# Altium footprint library PCB11.PcbLib: 40 footprints (part 2 of 3)
Each footprint in its own frame and in the unit in brackets; x right, y up, seen from the top. Pads: shape width x height; smd on the part's side, far side on the other; paste and mask are expansions set on the pad; w line width, h text height; cw(c..) or ccw(c..) is an arc to the next point about the centre after c.
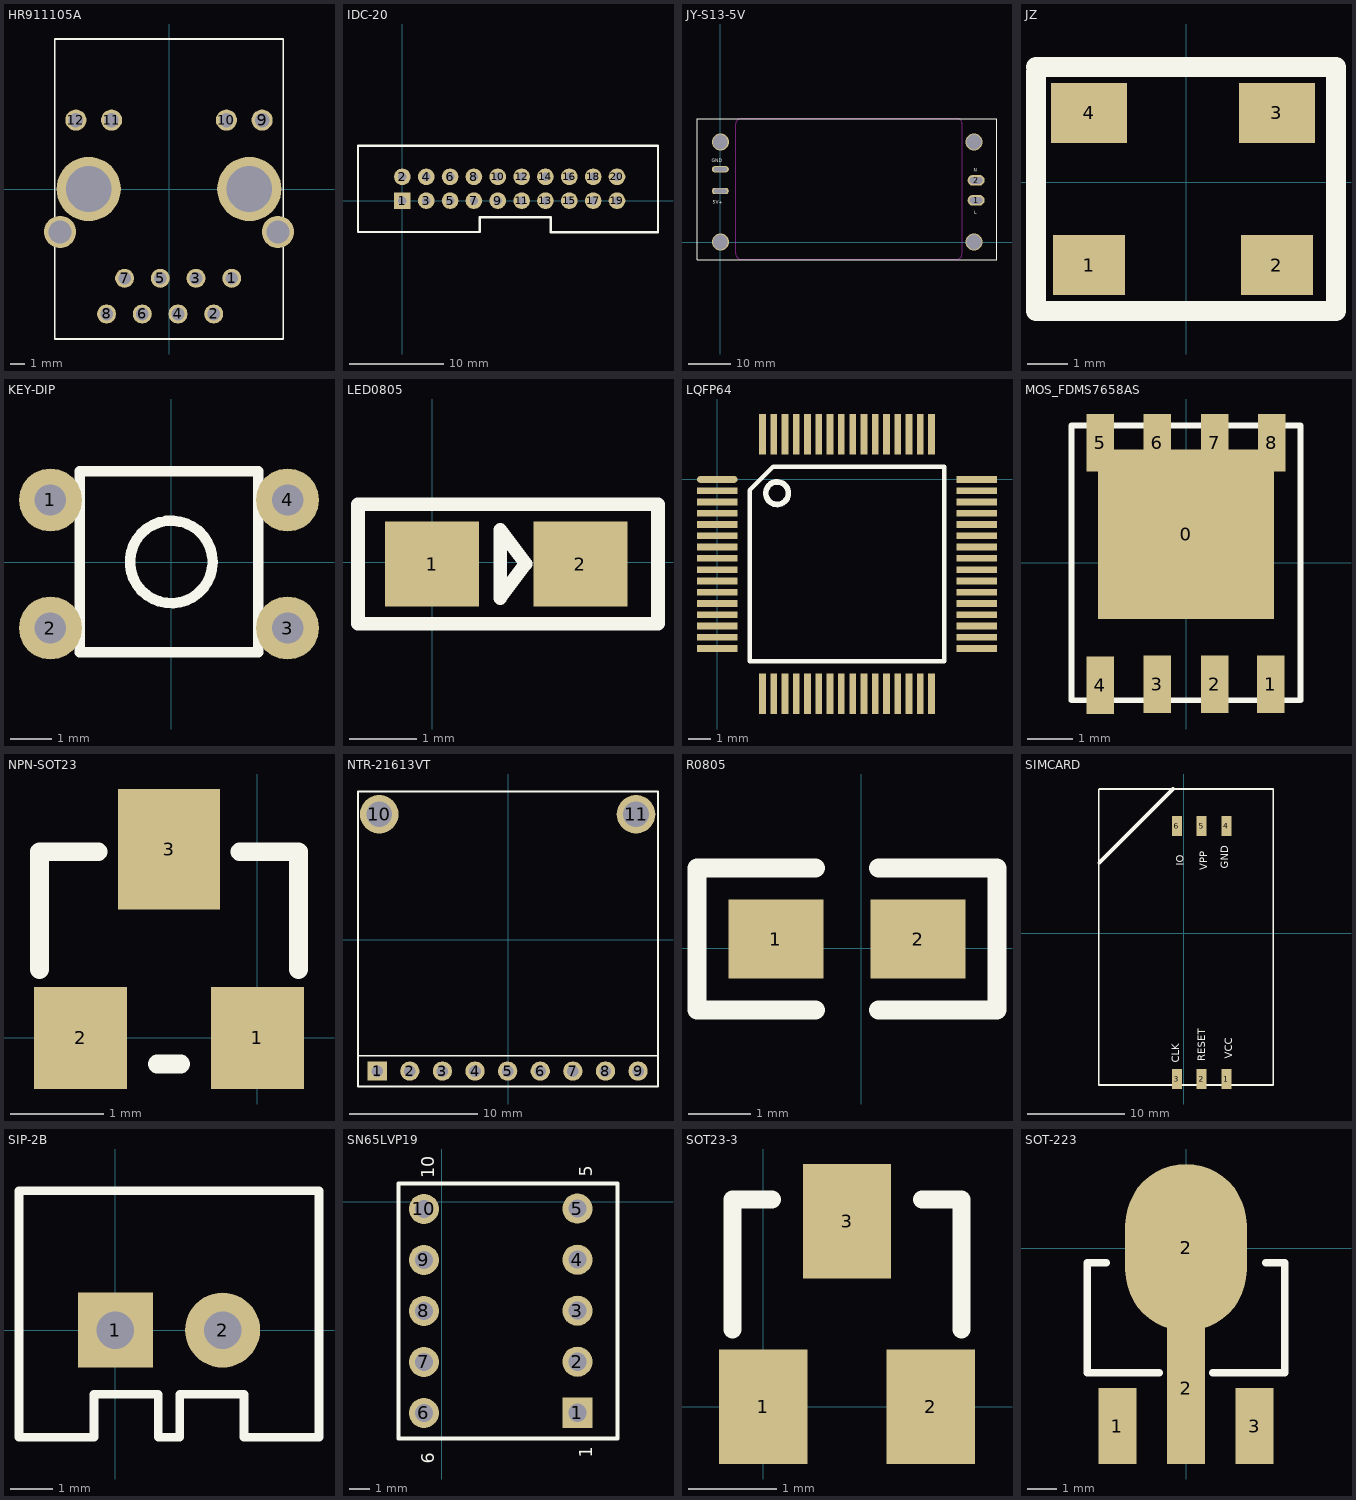
[diagram p1: the footprints below, top view; thin cyan lines are the x and y axes]

## HR911105A [mm]
pads (16):
  round 1.35 hole 0.89: 1(4.46,-6.35) 2(3.18,-8.89) 3(1.92,-6.35) 4(0.64,-8.89) 5(-0.62,-6.35) 6(-1.9,-8.89) 7(-3.16,-6.35) 8(-4.44,-8.89)
  round 1.5 hole 1.02: 9(6.625,4.9) 10(4.085,4.9) 11(-4.085,4.9) 12(-6.625,4.9)
  round 2.286 hole 1.63: ""(-7.745,-3.05) ""(7.745,-3.05)
  round 4.572 hole 3.25: ""(-5.715,0) ""(5.715,0)
Top Overlay:
  lines w0.127: -8.128,-10.668 8.128,-10.668 8.128,10.668 -8.128,10.668 -8.128,-10.668

## IDC-20 [mil]
height 270.08
pads (20):
  rect 70x70 hole 35: 1(1,0)
  round 70 hole 35: 2(1,100) 3(101,0) 4(101,100) 5(201,0) 6(201,100) 7(301,0) 8(301,100) 9(401,0) 10(401,100) 11(501,0) 12(501,100) 13(601,0) 14(601,100) 15(701,0) 16(701,100) 17(801,0) 18(801,100) 19(901,0) 20(901,100)
Top Overlay:
  lines w10: -185.22,-131.58 -185.22,231.02 1073.05,231.02 1073.05,-133.16 623.91,-133.16 623.91,-68.79 325.91,-68.79 325.91,-131.58 -185.22,-131.58

## JY-S13-5V [mm]
pads (4):
  oval 4x2.5 hole 1.5 slot 3 at 0 deg: 1(60,9.8) 2(60,14.5)
  oval 4x1.5 hole 1 slot 3 at 0 deg: 3(0,12) 4(0,17.1)
via 59.5,23.5 diameter 4 hole 3.5
via 0,23.5 diameter 4 hole 3.5
via 59.5,0 diameter 4 hole 3.5
via 0,0 diameter 4 hole 3.5
Top Overlay:
  lines w0.127: -5.461,-4.064 -5.461,28.956 64.897,28.956 64.897,-4.064 -5.461,-4.064
  text "N" at 59.436,16.51 h0.76
  text "L" at 59.563,6.604 h0.76
  text "5V+" at -1.778,9.017 h0.76
  text "GND" at -2.032,18.796 h0.76
Keep-Out Layer:
  lines w0.127: 11.963,-4.013 55.423,-4.013 ccw(c55.423,-2.743) 56.693,-2.743 56.693,27.737 ccw(c55.423,27.737) 55.423,29.007 4.902,29.007 ccw(c4.902,27.737) 3.632,27.737 3.632,-2.743 ccw(c4.902,-2.743) 4.902,-4.013 12.04,-4.013

## JZ [mm]
pads (4):
  rect 1.8x1.5 smd: 1(-2.425,-2.076) 2(2.274,-2.076)
  rect 1.9x1.5 smd: 3(2.274,1.734) 4(-2.425,1.734)
Top Overlay:
  lines w0.508: -3.75,1.226 -3.75,2.75 ; -3.75,1.353 -3.75,-1.695 -3.75,-3.219 3.75,-3.219 3.75,2.877 -3.75,2.877

## KEY-DIP [mil]
height 270.08
pads (4):
  round 60 hole 30: 1(-115,59.45) 2(-115,-62.6) 3(111,-62.6) 4(111,59.45)
Top Overlay:
  circle w10: c0.18,0.39 r39.37
  lines w10: -87.06,-85.63 82.86,-85.63 82.86,87.01 -87.06,87.01 -87.06,-85.63

## LED0805 [mm]
height 6.86
pads (2):
  rect 1.4x1.27 smd: 1(0,-0.025) 2(2.21,-0.025)
Top Overlay:
  lines w0.203: 1.013,-0.529 1.394,-0.021 ; 1.016,-0.533 1.016,0.483 1.397,-0.025 ; -1.104,-0.914 3.367,-0.914 3.367,0.864 -1.104,0.864 -1.104,-0.914

## LQFP64 [mm]
height 6.86
pads (64):
  oval 1.8x0.3 smd: 1(0,0)
  rect 1.8x0.3 smd: 2(0,-0.5) 3(0,-1) 4(0,-1.5) 5(0,-2) 6(0,-2.5) 7(0,-3) 8(0,-3.5) 9(0,-4) 10(0,-4.5) 11(0,-5) 12(0,-5.5) 13(0,-6) 14(0,-6.5) 15(0,-7) 16(0,-7.5) 33(11.5,-7.5) 34(11.5,-7) 35(11.5,-6.5) 36(11.5,-6) 37(11.5,-5.5) 38(11.5,-5) 39(11.5,-4.5) 40(11.5,-4) 41(11.5,-3.5) 42(11.5,-3) 43(11.5,-2.5) 44(11.5,-2) 45(11.5,-1.5) 46(11.5,-1) 47(11.5,-0.5) 48(11.5,0)
  rect 0.3x1.8 smd: 17(2,-9.5) 18(2.5,-9.5) 19(3,-9.5) 20(3.5,-9.5) 21(4,-9.5) 22(4.5,-9.5) 23(5,-9.5) 24(5.5,-9.5) 25(6,-9.5) 26(6.5,-9.5) 27(7,-9.5) 28(7.5,-9.5) 29(8,-9.5) 30(8.5,-9.5) 31(9,-9.5) 32(9.5,-9.5) 49(9.5,2) 50(9,2) 51(8.5,2) 52(8,2) 53(7.5,2) 54(7,2) 55(6.5,2) 56(6,2) 57(5.5,2) 58(5,2) 59(4.5,2) 60(4,2) 61(3.5,2) 62(3,2) 63(2.5,2) 64(2,2)
Top Overlay:
  circle w0.254: c2.65,-0.61 r0.5
  lines w0.2: 1.435,-8.065 10.065,-8.065 10.065,0.565 2.47,0.565 1.435,-0.47 1.435,-8.065

## MOS_FDMS7658AS [mm]
pads (9):
  rect 3.91x3.75 smd: 0(0,0.635)
  rect 0.61x1.27 smd: 1(1.88,-2.692) 2(0.635,-2.692) 3(-0.635,-2.692) 4(-1.905,-2.718) 5(-1.905,2.667) 6(-0.635,2.667) 7(0.635,2.667) 8(1.905,2.667)
Top Overlay:
  lines w0.127: -0.254,0 0.254,0 ; 0,-0.254 0,0.254 ; 2.54,-3.048 2.54,3.048 ; 2.54,-3.048 2.54,3.048 ; 2.54,-3.048 -2.54,-3.048 -2.54,3.048 2.54,3.048

## NPN-SOT23 [mm]
height 6.86
pads (3):
  rect 1x1.1 smd: 1(0,0) 2(-1.905,0)
  rect 1.1x1.3 smd: 3(-0.953,2.032)
Top Overlay:
  lines w0.203: -2.349,0.737 -2.349,2.007 -1.714,2.007 ; -1.079,-0.279 -0.826,-0.279 ; -0.191,2.007 0.445,2.007 0.445,0.737

## NTR-21613VT [mm]
pads (11):
  rect 1.5x1.5 hole 0.9: 1(-10.189,-10.226)
  round 1.5 hole 0.9: 2(-7.649,-10.226) 3(-5.109,-10.226) 4(-2.569,-10.226) 5(-0.029,-10.226) 6(2.511,-10.226) 7(5.051,-10.226) 8(7.591,-10.226) 9(10.131,-10.226)
  round 3 hole 2: 10(-10.029,9.774) 11(9.971,9.774)
Top Overlay:
  lines w0.127: -11.684,-11.43 11.684,-11.43 11.684,-9.017 ; -11.684,-11.405 -11.684,-8.865 ; 11.684,-9.017 -11.684,-9.017 -11.684,11.557 11.684,11.557 11.684,-9.017

## R0805 [mil]
height 10
pads (2):
  rect 60x50 smd: 1(-54,6) 2(36,6)
Top Overlay:
  lines w12: -29,-39 -104,-39 -104,51 -29,51 ; 11,-39 86,-39 86,51 11,51

## SIMCARD [mil]
height 270.08
pads (6):
  rect 40x80 smd: 1(171.63,-590.25) 2(71.63,-590.25) 3(-28.37,-590.25) 4(171.63,433.37) 5(71.63,433.37) 6(-28.37,433.37)
Top Overlay:
  lines w7: -344,-615.48 -344,581.37 ; -341.76,-613.63 361,-613.63 361,583.22 -341.76,583.22
  lines w15: -341.76,285.46 -44,583.22
  text "GND" at 180,260 h30
  text "CLK" at -19,-523.63 h30
  text "VCC" at 196,-508.63 h30
  text "RESET" at 86,-518.63 h30
  text "IO" at -0.37,272.37 h30
  text "VPP" at 95,255 h30

## SIP-2B [mil]
height 39.37
pads (2):
  rect 70x70 hole 35: 1(0,0)
  round 70 hole 35: 2(100,0)
Top Overlay:
  lines w8: -90,-100 -90,130 190,130 190,-100 120,-100 120,-60 60,-60 60,-100 40,-100 40,-60 -20,-60 -20,-100 -90,-100

## SN65LVP19 [mm]
pads (10):
  rect 1.5x1.5 hole 0.9: 1(6.75,-10.5)
  round 1.5 hole 0.9: 2(6.75,-7.96) 3(6.75,-5.42) 4(6.75,-2.88) 5(6.75,-0.34) 6(-0.893,-10.513) 7(-0.893,-7.973) 8(-0.893,-5.433) 9(-0.893,-2.893) 10(-0.893,-0.353)
Top Overlay:
  lines w0.2: -2.163,-11.783 8.75,-11.783 8.75,0.917 -2.163,0.917 -2.163,-11.783
  text "6" at -0.385,-13.053 h0.64
  text "10" at -0.385,1.171 h0.64
  text "5" at 7.5,1.25 h0.64
  text "1" at 7.5,-12.75 h0.64

## SOT23-3 [mm]
height 6.86
pads (3):
  rect 1x1.3 smd: 1(0,0) 2(1.9,0) 3(0.95,2.1)
Top Overlay:
  lines w0.203: -0.35,0.875 -0.35,2.35 0.1,2.35 ; 1.8,2.35 2.25,2.35 2.25,0.875

## SOT-223 [mil]
height 270.08
pads (4):
  rect 50x100 smd: 1(-90.5,-234) 3(90.5,-234)
  rect 50x200 smd: 2(0,-184)
  oval 160x220 smd: 2(0,1)
Top Overlay:
  lines w10: -105,-19 -130,-19 -130,-164 -35,-164 ; 35,-164 130,-164 130,-19 105,-19